# Altium footprint library PcbLib.PcbLib: 1 footprints
Each footprint in its own frame and in the unit in brackets; x right, y up, seen from the top. Pads: shape width x height; smd on the part's side, far side on the other; paste and mask are expansions set on the pad; w line width, h text height; cw(c..) or ccw(c..) is an arc to the next point about the centre after c.
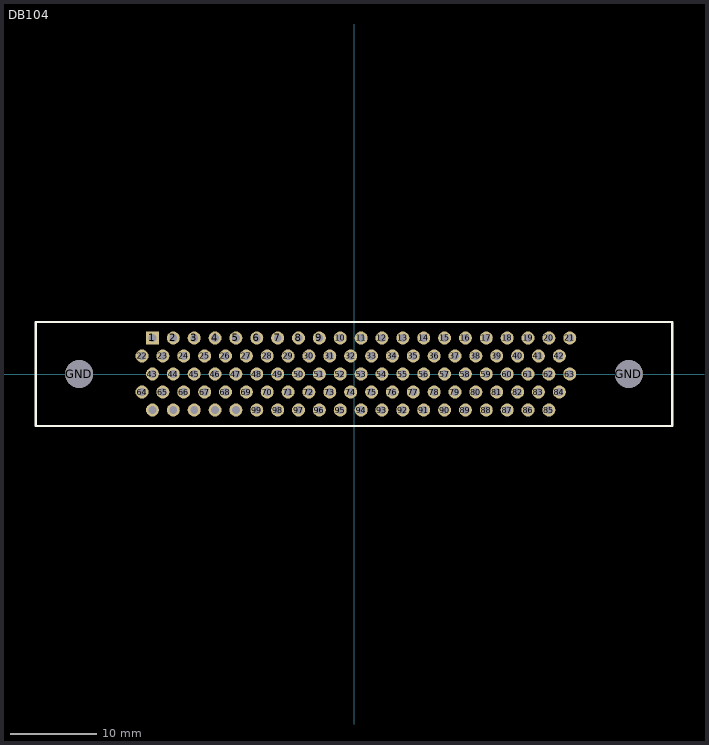
[diagram p0: the footprint, top view; thin cyan lines are the x and y axes]

## DB104 [mm]
pads (106):
  rect 1.5x1.5 hole 0.89: 1(-23.28,4.16)
  round 1.5 hole 0.89: 2(-20.87,4.16) 3(-18.46,4.16) 4(-16.05,4.16) 5(-13.64,4.16) 6(-11.23,4.16) 7(-8.82,4.16) 8(-6.41,4.16) 9(-4,4.16) 10(-1.59,4.16) 11(0.82,4.16) 12(3.23,4.16) 13(5.64,4.16) 14(8.05,4.16) 15(10.46,4.16) 16(12.87,4.16) 17(15.28,4.16) 18(17.69,4.16) 19(20.1,4.16) 20(22.51,4.16) 21(24.92,4.16) 22(-24.485,2.08) 23(-22.075,2.08) 24(-19.665,2.08) 25(-17.255,2.08) 26(-14.845,2.08) 27(-12.435,2.08) 28(-10.025,2.08) 29(-7.615,2.08) 30(-5.205,2.08) 31(-2.795,2.08) 32(-0.385,2.08) 33(2.025,2.08) 34(4.435,2.08) 35(6.845,2.08) 36(9.255,2.08) 37(11.665,2.08) 38(14.075,2.08) 39(16.485,2.08) 40(18.895,2.08) 41(21.305,2.08) 42(23.715,2.08) 43(-23.28,0) 44(-20.87,0) 45(-18.46,0) 46(-16.05,0) 47(-13.64,0) 48(-11.23,0) 49(-8.82,0) 50(-6.41,0) 51(-4,0) 52(-1.59,0) 53(0.82,0) 54(3.23,0) 55(5.64,0) 56(8.05,0) 57(10.46,0) 58(12.87,0) 59(15.28,0) 60(17.69,0) 61(20.1,0) 62(22.51,0) 63(24.92,0) 64(-24.485,-2.08) 65(-22.075,-2.08) 66(-19.665,-2.08) 67(-17.255,-2.08) 68(-14.845,-2.08) 69(-12.435,-2.08) 70(-10.025,-2.08) 71(-7.615,-2.08) 72(-5.205,-2.08) 73(-2.795,-2.08) 74(-0.385,-2.08) 75(2.025,-2.08) 76(4.435,-2.08) 77(6.845,-2.08) 78(9.255,-2.08) 79(11.665,-2.08) 80(14.075,-2.08) 81(16.485,-2.08) 82(18.895,-2.08) 83(21.305,-2.08) 84(23.715,-2.08) 85(22.51,-4.16) 86(20.1,-4.16) 87(17.69,-4.16) 88(15.28,-4.16) 89(12.87,-4.16) 90(10.46,-4.16) 91(8.05,-4.16) 92(5.64,-4.16) 93(3.23,-4.16) 94(0.82,-4.16) 95(-1.59,-4.16) 96(-4,-4.16) 97(-6.41,-4.16) 98(-8.82,-4.16) 99(-11.23,-4.16) 100(-13.64,-4.16) 101(-16.05,-4.16) 102(-18.46,-4.16) 103(-20.87,-4.16) 104(-23.28,-4.16)
  round 3.2 hole 3.2: GND(-31.75,0) GND(31.75,0)
Top Overlay:
  lines w0.25: -36.75,-6 36.75,-6 36.75,6 -36.75,6 -36.75,0 -36.75,-6
3D body "dd104m4r80t2s.stp": height 16.98, standoff -3.16, extent -34.638,-23.068 34.678,5.406